# EAGLE library part HV830 (library my_ic)
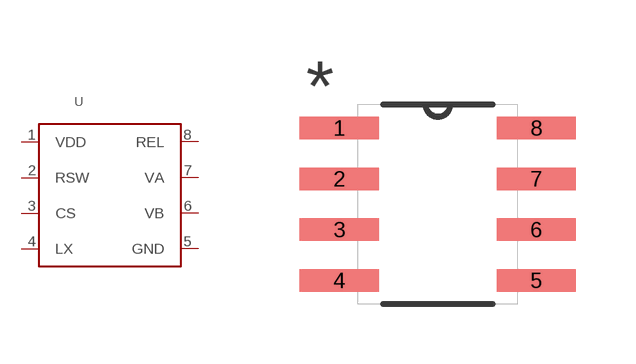
[diagram p7: symbol with the pads of SOIC-8; footprint SOIC-8]

Designator prefix -

## HV830  [SOIC-8]
1  VDD
2  RSW
3  CS
4  LX
5  GND
6  VB
7  VA
8  REL

## Footprint SOIC-8 (pad centres in mm)
smd 1.981 x 0.559: 1 -2.464,1.905; 2 -2.464,0.635; 3 -2.464,-0.635; 4 -2.464,-1.905; 5 2.464,-1.905; 6 2.464,-0.635; 7 2.464,0.635; 8 2.464,1.905